# Altium schematic symbol library L86-M33.SchLib: 1 symbol
Pins are listed as number, name and electrical type; pins without a type are passive.

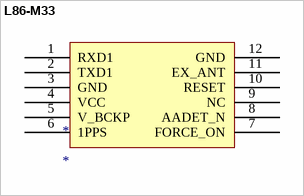
[diagram p0: symbol L86-M33]

## L86-M33
designator *
pins: 1 RXD1, 2 TXD1, 3 GND, 4 VCC, 5 V_BCKP, 6 1PPS, 7 FORCE_ON, 8 AADET_N, 9 NC, 10 RESET, 11 EX_ANT, 12 GND